# EAGLE library part 74HCT138 (library Z_GessIOMod)
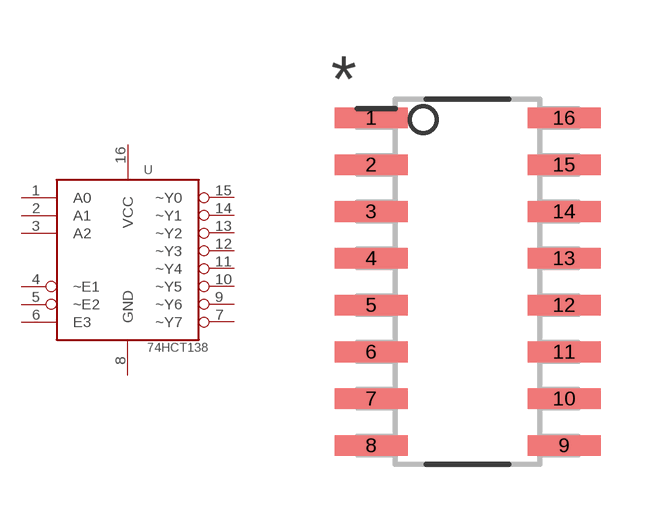
[diagram p6: symbol with the pads of SOIC127P600X175-16N; footprint SOIC127P600X175-16N]

Designator prefix -

## 74HCT138  [SOIC127P600X175-16N]
1  A0
2  A1
3  A2
4  ~E1
5  ~E2
6  E3
7  ~Y7
8  GND
9  ~Y6
10  ~Y5
11  ~Y4
12  ~Y3
13  ~Y2
14  ~Y1
15  ~Y0
16  VCC

## Footprint SOIC127P600X175-16N (pad centres in mm)
smd 1.981 x 0.559: 1 -2.616,4.445; 2 -2.616,3.175; 3 -2.616,1.905; 4 -2.616,0.635; 5 -2.616,-0.635; 6 -2.616,-1.905; 7 -2.616,-3.175; 8 -2.616,-4.445; 9 2.616,-4.445; 10 2.616,-3.175; 11 2.616,-1.905; 12 2.616,-0.635; 13 2.616,0.635; 14 2.616,1.905; 15 2.616,3.175; 16 2.616,4.445